# Altium footprint library 1_to_5_Pin.PcbLib: 194 footprints (part 6 of 13)
Each footprint in its own frame and in the unit in brackets; x right, y up, seen from the top. Pads: shape width x height; smd on the part's side, far side on the other; paste and mask are expansions set on the pad; w line width, h text height; cw(c..) or ccw(c..) is an arc to the next point about the centre after c.
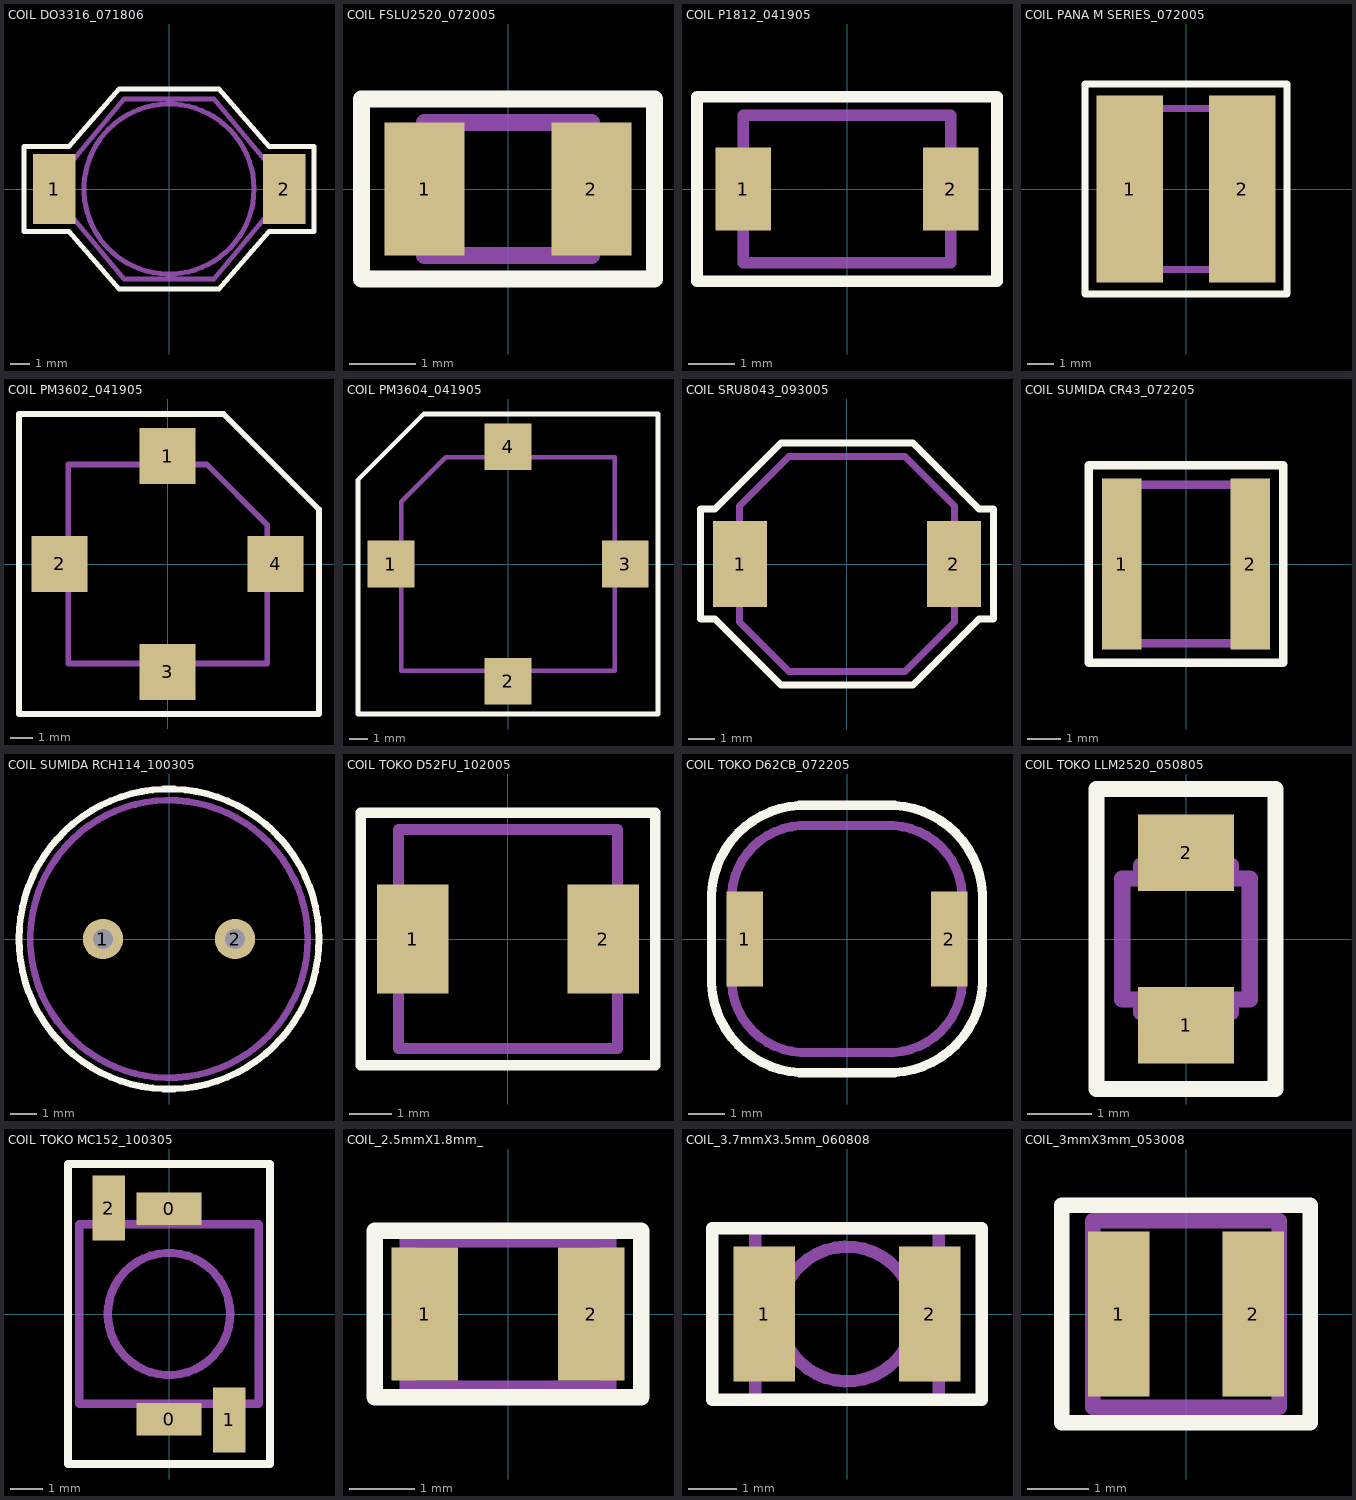
[diagram p5: the footprints below, top view; thin cyan lines are the x and y axes]

## COIL DO3316_071806 [mil] "SMT"
height 180
pads (2):
  rect 85x140 smd: 1(-230,0) 2(230,0)
Top Overlay:
  lines w10: -290,-85 -290,0 -290,85 -200,85 -100,200 0,200 100,200 200,85 290,85 290,0 290,-85 200,-85 100,-200 0,-200 -100,-200 -200,-85 -290,-85
Assembly Outline:
  circle w10: c0,0 r170
  lines w10: -245,-60 -245,0 -245,60 -190,60 -90,180 0,180 90,180 190,60 245,60 245,0 245,-60 190,-60 90,-180 0,-180 -90,-180 -190,-60 -245,-60
Assembly Designator:
  text ".Designator" at -30,-10 h40
Assembly Comment:
  text ".Comment" at -110,-55 h40

## COIL FSLU2520_072005 [mm] "SM"
height 1.8
pads (2):
  rect 1.2x2 smd: 1(-1.25,0) 2(1.25,0)
Top Overlay:
  lines w0.254: -2.2,-1.35 -2.2,0 -2.2,1.35 0,1.35 2.2,1.35 2.2,0 2.2,-1.35 0,-1.35 -2.2,-1.35
Assembly Outline:
  lines w0.254: 0,1 -1.25,1 ; -1.25,1 -1.25,-1 1.25,-1 1.25,1 -1.25,1
Assembly Designator:
  text ".Designator" at -0.75,-0.475 h1.02
Assembly Comment:
  text ".Comment" at -3.025,-2.475 h1.02

## COIL P1812_041905 [mm] "SMT"
height 3.175
pads (2):
  rect 1.2x1.8 smd: 1(-2.25,0) 2(2.25,0)
Top Overlay:
  lines w0.254: -3.25,-2 3.25,-2 3.25,2 -0.85,2 -3.25,2 -3.25,-2
Assembly Outline:
  lines w0.254: -2.25,-1.6 2.25,-1.6 2.25,1.6 -2.25,1.6 -2.25,-1.6
Assembly Designator:
  text ".Designator" at -1.488,-0.381 h1.02
Assembly Comment:
  text ".Comment" at -3.139,-2.667 h1.02

## COIL PANA M SERIES_072005 [mm] "SMT"
height 2
pads (2):
  rect 2.5x7 smd: 1(-2.1,0) 2(2.1,0)
Top Overlay:
  lines w0.254: -3.775,-3.925 3.775,-3.925 3.775,0 3.775,3.925 0,3.925 -3.775,3.925 -3.775,0 -3.775,-3.925
Assembly Outline:
  lines w0.254: -3,-1.8 -3,0 -3,1.8 -1.8,3 0,3 1.8,3 3,1.8 3,-1.8 1.8,-3 -1.8,-3 -3,-1.8
Assembly Designator:
  text ".Designator" at -0.85,-0.375 h1.02
Assembly Comment:
  text ".Comment" at -3.4,-5.125 h1.02

## COIL PM3602_041905 [mil] "SMT"
height 220
pads (4):
  rect 100x100 smd: 1(0,192.5) 2(-192.5,0) 3(0,-192.5) 4(192.5,0)
Top Overlay:
  lines w10: -265,-267.5 -265,267.5 100,267.5 270,97.5 270,-267.5 0,-267.5 -265,-267.5
Assembly Outline:
  lines w10: -177.5,-40 -227.5,-40 -227.5,0 -227.5,40 -177.5,40 ; -177.5,0 -177.5,-177.5 ; -40,-177.5 -40,-227.5 0,-227.5 40,-227.5 40,-177.5 ; -40,177.5 -40,227.5 0,227.5 40,227.5 40,177.5 ; 177.5,-40 227.5,-40 227.5,0 227.5,40 177.5,40 ; -177.5,-177.5 -177.5,177.5 70,177.5 177.5,70 177.5,-177.5 -177.5,-177.5
Assembly Designator:
  text ".Designator" at -75,60 h40
Assembly Comment:
  text ".Comment" at -95,-115 h40

## COIL PM3604_041905 [mil] "SMT"
height 250
pads (4):
  rect 100x100 smd: 1(-250,0) 2(0,-250) 3(250,0) 4(0,250)
Top Overlay:
  lines w10: -320,-320 -320,0 -320,180 -180,320 320,320 320,270 320,0 320,-265 320,-320 -320,-320
Assembly Outline:
  lines w10: -227.5,-40 -277.5,-40 -277.5,0 -277.5,40 -227.5,40 ; -40,-227.5 -40,-277.5 0,-277.5 40,-277.5 40,-227.5 ; -40,227.5 -40,277.5 0,277.5 40,277.5 40,227.5 ; 227.5,-40 277.5,-40 277.5,0 277.5,40 227.5,40 ; -227.5,-227.5 -177.5,-227.5 177.5,-227.5 227.5,-227.5 227.5,-177.5 227.5,177.5 227.5,227.5 177.5,227.5 -70,227.5 -132.5,227.5 -227.5,132.5 -227.5,70 -227.5,-177.5 -227.5,-227.5
Assembly Designator:
  text ".Designator" at -101.69,64.77 h40
Assembly Comment:
  text ".Comment" at -121.69,-110.23 h40

## COIL SRU8043_093005 [mm] "SMT"
height 4.3
pads (2):
  rect 2x3.2 smd: 1(-3.975,0) 2(3.975,0)
Top Overlay:
  lines w0.254: -5.45,-2.05 -5.45,0 -5.45,2.05 -4.9,2.05 -2.45,4.5 0,4.5 2.45,4.5 4.9,2.05 5.45,2.05 5.45,0 5.45,-2.05 4.9,-2.05 2.45,-4.5 0,-4.5 -2.45,-4.5 -4.9,-2.05 -5.45,-2.05
Assembly Outline:
  lines w0.254: -4,-2.15 -2.15,-4 2.15,-4 4,-2.15 4,2.15 2.15,4 -2.15,4 -4,2.15 -4,0 -4,-2.15
Assembly Designator:
  text ".Designator" at -1.1,-0.35 h1.02
Assembly Comment:
  text ".Comment" at -4.65,-5.8 h1.02

## COIL SUMIDA CR43_072205 [mm] "SMT"
height 3.5
pads (2):
  rect 1.2x5.2 smd: 1(-1.95,0) 2(1.95,0)
Top Overlay:
  lines w0.254: -2.95,-3 -2.95,0 -2.95,3 0,3 2.95,3 2.95,0 2.95,-3 0,-3 -2.95,-3
Assembly Outline:
  lines w0.254: 0,2.4 -2.15,2.4 ; -2.15,2.4 -2.15,-2.4 2.15,-2.4 2.15,2.4 -2.15,2.4
Assembly Designator:
  text ".Designator" at -0.875,-0.375 h1.02
Assembly Comment:
  text ".Comment" at -3.225,-4.275 h1.02

## COIL SUMIDA RCH114_100305 [mil] "TH"
height 566.93
pads (2):
  round 60 hole 30: 1(-98.43,0) 2(98.43,0)
Top Overlay:
  circle w10: c0,0 r223.43
Assembly Outline:
  circle w10: c0,0 r206.69
Assembly Designator:
  text ".Designator" at -30.51,-14.76 h40
Assembly Comment:
  text ".Comment" at -149.61,-97.44 h40

## COIL TOKO D52FU_102005 [mm] "SMT"
height 2.2
pads (2):
  rect 1.7x2.6 smd: 1(-2.262,0) 2(2.263,0)
Top Overlay:
  lines w0.254: -3.5,-3 -3.5,0 -3.5,3 2.375,3 3.5,3 3.5,0 3.5,-3 -2.375,-3 -3.5,-3
Assembly Outline:
  lines w0.254: -2.6,-2.6 0,-2.6 2.6,-2.6 2.6,0 2.6,2.6 0,2.6 -2.6,2.6 -2.6,0 -2.6,-2.6
Assembly Designator:
  text ".Designator" at -0.8,-0.35 h1.02
Assembly Comment:
  text ".Comment" at -3.375,-4.375 h1.02

## COIL TOKO D62CB_072205 [mm] "SMT"
height 2.5
pads (2):
  rect 1x2.6 smd: 1(-2.8,0) 2(2.8,0)
Top Overlay:
  lines w0.254: -3.702,-0.969 ccw(c-1.162,-1.112) -1.306,-3.652 1.306,-3.652 ccw(c1.162,-1.112) 3.702,-0.969 3.702,0.969 ccw(c1.162,1.112) 1.306,3.652 -1.306,3.652 ccw(c-1.162,1.112) -3.702,0.969 -3.702,-0.969
Assembly Outline:
  lines w0.254: -3.15,-1 ccw(c-1.163,-1.113) -1.275,-3.1 1.275,-3.1 ccw(c1.163,-1.113) 3.15,-1 3.15,1 ccw(c1.163,1.113) 1.275,3.1 -1.275,3.1 ccw(c-1.163,1.113) -3.15,1 -3.15,-1
Assembly Designator:
  text ".Designator" at -1.35,-0.35 h1.02
Assembly Comment:
  text ".Comment" at -3.4,-4.725 h1.02

## COIL TOKO LLM2520_050805 [mm] "SMT"
height 3.302
pads (2):
  rect 1.5x1.2 smd: 1(0,-1.35) 2(0,1.35)
Top Overlay:
  lines w0.254: -1.4,-2.35 -1.4,0.05 -1.4,2.35 1.4,2.35 1.4,-2.35 -1.4,-2.35
Assembly Outline:
  lines w0.254: 0,-0.95 0,-1.15 ; 0,0.95 0,1.15 ; -0.7,-0.95 0.7,-0.95 ; -0.7,-0.95 -1,-0.95 -1,0.95 -0.7,0.95 ; -0.7,-0.95 -0.7,-1.15 0,-1.15 ; -0.7,0.95 0.7,0.95 ; -0.7,0.95 -0.7,1.15 0,1.15 ; 0,-1.15 0.7,-1.15 0.7,-0.95 ; 0,1.15 0.7,1.15 0.7,0.95 ; 0.7,-0.95 1,-0.95 1,0.95 0.7,0.95
Assembly Designator:
  text ".Designator" at -1.472,-0.714 h1.02
Assembly Comment:
  text ".Comment" at 2.338,-1.476 h1.02

## COIL TOKO MC152_100305 [mm] "SMT"
height 5.2
pads (4):
  rect 2x1 smd: 0(0,-3.225) 0(0,3.225)
  rect 1x2 smd: 1(1.85,-3.25) 2(-1.85,3.25)
Top Overlay:
  lines w0.254: -3.1,-4.6 0,-4.6 3.1,-4.6 3.1,0 3.1,4.6 0,4.6 -3.1,4.6 -3.1,0 -3.1,-4.6
Assembly Outline:
  circle w0.254: c0,0 r1.875
  lines w0.254: -1.85,2.75 -2.1,2.75 -2.1,3.5 -1.6,3.5 -1.6,2.75 ; -0.5,-2.75 -0.5,-3.5 0,-3.5 0.5,-3.5 0.5,-2.75 ; -0.5,2.75 -0.5,3.5 0,3.5 0.5,3.5 0.5,2.75 ; 0,2.75 2.75,2.75 ; 1.6,-2.75 1.6,-3.5 2.1,-3.5 2.1,-2.75 1.85,-2.75 ; 2.75,2.75 2.75,-2.75 -2.75,-2.75 -2.75,2.75 2.75,2.75
Assembly Designator:
  text ".Designator" at -1.025,-0.4 h1.02
Assembly Comment:
  text ".Comment" at -2.375,-6.275 h1.02

## COIL_2.5mmX1.8mm_ [mil] "SMT"
height 70
pads (2):
  rect 40x80 smd: 1(-50,0) 2(50,0)
Top Overlay:
  lines w10: -80,-50 80,-50 80,50 -80,50 -80,-50
Assembly Outline:
  lines w10: -60,-45 60,-45 60,45 -60,45 -60,-45
Assembly Designator:
  text ".Designator" at -50,-20 h40
Assembly Comment:
  text ".Comment" at -85,-120 h40

## COIL_3.7mmX3.5mm_060808 [mil] "SMT"
height 60
pads (2):
  rect 50x110 smd: 1(-67.5,0) 2(67.5,0)
Top Overlay:
  lines w10: -110,-70 -110,70 110,70 110,-70 -110,-70
Assembly Outline:
  circle w10: c0,0 r55
  lines w10: -75,-70 75,-70 75,70 -75,70 -75,-70
Assembly Designator:
  text ".Designator" at -50,-20 h40
Assembly Comment:
  text ".Comment" at -85,-120 h40

## COIL_3mmX3mm_053008 [mm] "SMT"
height 1.27
pads (2):
  rect 1x2.7 smd: 1(-1.1,0) 2(1.1,0)
Top Overlay:
  lines w0.254: -2.032,-1.778 -2.032,1.778 2.032,1.778 2.032,-1.778 -2.032,-1.778
Assembly Outline:
  lines w0.254: -1.524,-1.524 1.524,-1.524 1.524,1.524 -1.524,1.524 -1.524,-1.524
Assembly Designator:
  text ".Designator" at -1.27,-0.508 h1.02
Assembly Comment:
  text ".Comment" at -2.159,-3.048 h1.02